# EAGLE library part K155ID1 (library Nixie)
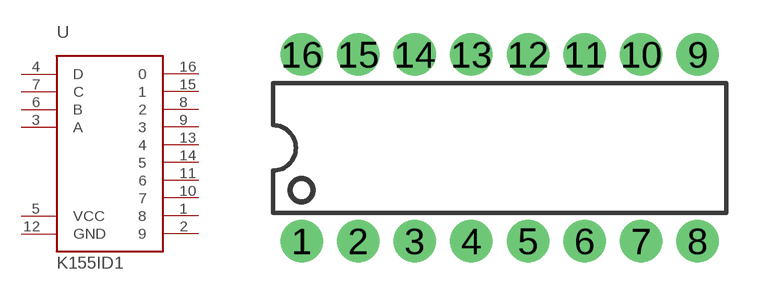
[diagram p1: symbol with the pads of DIL16-KIT; footprint DIL16-KIT]

Designator prefix -

## K155ID1  [DIL16-KIT]
1  8
2  9
3  A  in
4  D  in
5  VCC
6  B  in
7  C  in
8  2
9  3
10  7
11  6
12  GND
13  4
14  5
15  1
16  0

## Footprint DIL16-KIT (pad centres in mm)
drill 0.864 pad 1.905: 1 -8.89,-4.191; 2 -6.35,-4.191; 3 -3.81,-4.191; 4 -1.27,-4.191; 5 1.27,-4.191; 6 3.81,-4.191; 7 6.35,-4.191; 8 8.89,-4.191; 9 8.89,4.191; 10 6.35,4.191; 11 3.81,4.191; 12 1.27,4.191; 13 -1.27,4.191; 14 -3.81,4.191; 15 -6.35,4.191; 16 -8.89,4.191